# Altium schematic symbol library Xilinx_JTAG.SchLib: 1 symbol
Pins are listed as number, name and electrical type; pins without a type are passive.

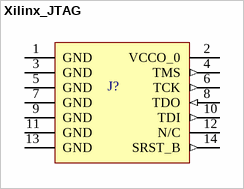
[diagram p0: symbol Xilinx_JTAG]

## Xilinx_JTAG
designator J?  (value not drawn)
pins: 1 GND (power), 2 VCCO_0 (power), 3 GND (power), 4 TMS (out), 5 GND (power), 6 TCK (out), 7 GND (power), 8 TDO (in), 9 GND (power), 10 TDI (out), 11 GND (power), 12 N/C, 13 GND (power), 14 SRST_B (out)